# Altium integrated library R_CERAMICA_SQP500JB-1K3.IntLib: 1 symbol
Pins are listed as number, name and electrical type; pins without a type are passive.

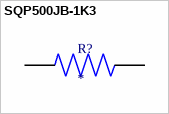
[diagram p0: symbol SQP500JB-1K3]

## SQP500JB-1K3
designator R?
1.3 kOhms Â±5% 5W Through Hole Resistor Axial Anti-Arc, Flame Proof, Moisture Resistant, Safety Metal Oxide Film; MF: Yageo; MP: SQP500JB-1K3; SnapEDA_Link: https://www.snapeda.com/parts/SQP500JB-1K3/Yageo/view-part/?ref=snap; Package: Axial Yageo; Value: *; Check_prices: https://www.snapeda.com/parts/SQP500JB-1K3/Yageo/view-part/?ref=eda
footprint RESAD2860W80L2200D950
pins: 1, 2